# Altium footprint library LED_LiteOn.PcbLib: 1 footprints
Each footprint in its own frame and in the unit in brackets; x right, y up, seen from the top. Pads: shape width x height; smd on the part's side, far side on the other; paste and mask are expansions set on the pad; w line width, h text height; cw(c..) or ccw(c..) is an arc to the next point about the centre after c.
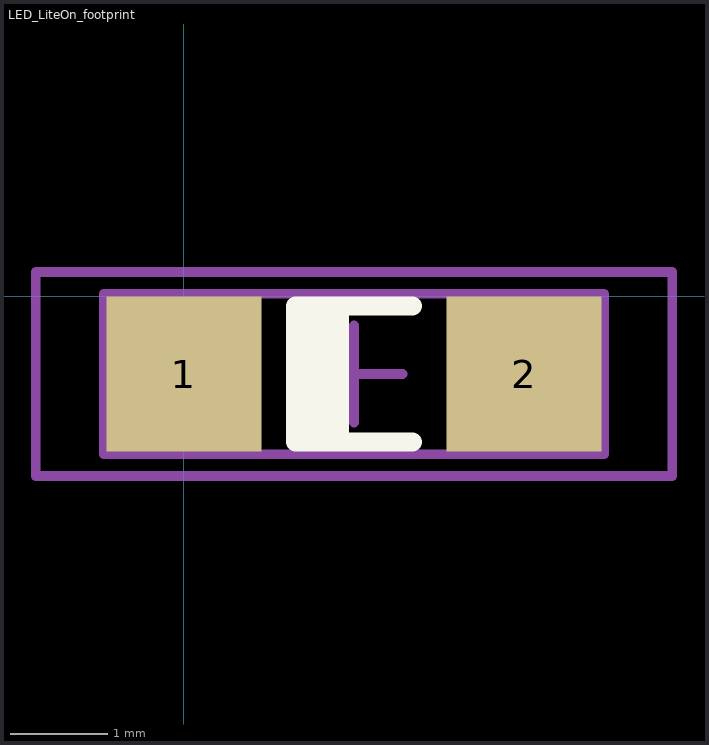
[diagram p0: the footprint, top view; thin cyan lines are the x and y axes]

## LED_LiteOn_footprint [mm] "LED Lite On foot print SMD 1206"
height 1.1
pads (2):
  rect 1.6x1.6 smd: 1(0,-0.8) 2(3.5,-0.8)
Top Overlay:
  rectangle: 1.15,-1.5 1.7,-0.1
  lines w0.2: 2.35,-1.5 1.15,-1.5 1.15,-0.1 2.35,-0.1
Mechanical 13:
  lines w0.1: -0.825,-1.625 -0.825,0.025 4.325,0.025 4.325,-1.625 -0.825,-1.625
Mechanical 15:
  lines w0.1: 1.25,-0.8 2.25,-0.8 ; 1.75,-1.3 1.75,-0.3 ; -1.525,-1.85 -1.525,0.25 5.025,0.25 5.025,-1.85 -1.525,-1.85
3D body: height 1.1, standoff 0, extent -0.825,-1.625 4.325,0.025